# Altium schematic symbol library SCH - ARM CORTEX - STM STM32F302C(6-8)Tx.SchLib: 1 symbol
Pins are listed as number, name and electrical type; pins without a type are passive.

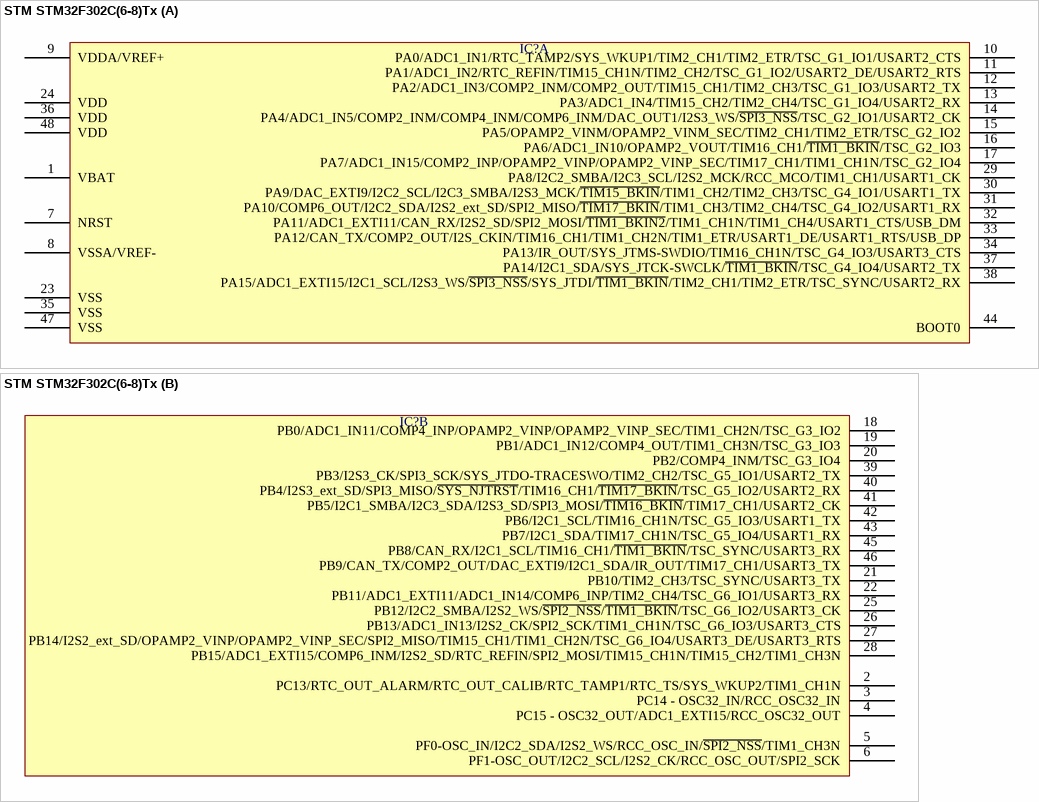
[diagram p0: symbol STM STM32F302C(6-8)Tx]

## STM STM32F302C(6-8)Tx
designator IC?  (value not drawn)
part A pins: 1 VBAT, 7 NRST, 8 VSSA/VREF-, 9 VDDA/VREF+, 10 PA0/ADC1_IN1/RTC_TAMP2/SYS_WKUP1/TIM2_CH1/TIM2_ETR/TSC_G1_IO1/USART2_CTS, 11 PA1/ADC1_IN2/RTC_REFIN/TIM15_CH1N/TIM2_CH2/TSC_G1_IO2/USART2_DE/USART2_RTS, 12 PA2/ADC1_IN3/COMP2_INM/COMP2_OUT/TIM15_CH1/TIM2_CH3/TSC_G1_IO3/USART2_TX, 13 PA3/ADC1_IN4/TIM15_CH2/TIM2_CH4/TSC_G1_IO4/USART2_RX, 14 PA4/ADC1_IN5/COMP2_INM/COMP4_INM/COMP6_INM/DAC_OUT1/I2S3_WS/~{SPI3_NSS}/TSC_G2_IO1/USART2_CK, 15 PA5/OPAMP2_VINM/OPAMP2_VINM_SEC/TIM2_CH1/TIM2_ETR/TSC_G2_IO2, 16 PA6/ADC1_IN10/OPAMP2_VOUT/TIM16_CH1/~{TIM1_BKIN}/TSC_G2_IO3, 17 PA7/ADC1_IN15/COMP2_INP/OPAMP2_VINP/OPAMP2_VINP_SEC/TIM17_CH1/TIM1_CH1N/TSC_G2_IO4, 23 VSS, 24 VDD, 29 PA8/I2C2_SMBA/I2C3_SCL/I2S2_MCK/RCC_MCO/TIM1_CH1/USART1_CK, 30 PA9/DAC_EXTI9/I2C2_SCL/I2C3_SMBA/I2S3_MCK/~{TIM15_BKIN}/TIM1_CH2/TIM2_CH3/TSC_G4_IO1/USART1_TX, 31 PA10/COMP6_OUT/I2C2_SDA/I2S2_ext_SD/SPI2_MISO/~{TIM17_BKIN}/TIM1_CH3/TIM2_CH4/TSC_G4_IO2/USART1_RX, 32 PA11/ADC1_EXTI11/CAN_RX/I2S2_SD/SPI2_MOSI/~{TIM1_BKIN2}/TIM1_CH1N/TIM1_CH4/USART1_CTS/USB_DM, 33 PA12/CAN_TX/COMP2_OUT/I2S_CKIN/TIM16_CH1/TIM1_CH2N/TIM1_ETR/USART1_DE/USART1_RTS/USB_DP, 34 PA13/IR_OUT/SYS_JTMS-SWDIO/TIM16_CH1N/TSC_G4_IO3/USART3_CTS, 35 VSS, 36 VDD, 37 PA14/I2C1_SDA/SYS_JTCK-SWCLK/~{TIM1_BKIN}/TSC_G4_IO4/USART2_TX, 38 PA15/ADC1_EXTI15/I2C1_SCL/I2S3_WS/~{SPI3_NSS}/SYS_JTDI/~{TIM1_BKIN}/TIM2_CH1/TIM2_ETR/TSC_SYNC/USART2_RX, 44 BOOT0, 47 VSS, 48 VDD
part B pins: 2 PC13/RTC_OUT_ALARM/RTC_OUT_CALIB/RTC_TAMP1/RTC_TS/SYS_WKUP2/TIM1_CH1N, 3 PC14 - OSC32_IN/RCC_OSC32_IN, 4 PC15 - OSC32_OUT/ADC1_EXTI15/RCC_OSC32_OUT, 5 PF0-OSC_IN/I2C2_SDA/I2S2_WS/RCC_OSC_IN/~{SPI2_NSS}/TIM1_CH3N, 6 PF1-OSC_OUT/I2C2_SCL/I2S2_CK/RCC_OSC_OUT/SPI2_SCK, 18 PB0/ADC1_IN11/COMP4_INP/OPAMP2_VINP/OPAMP2_VINP_SEC/TIM1_CH2N/TSC_G3_IO2, 19 PB1/ADC1_IN12/COMP4_OUT/TIM1_CH3N/TSC_G3_IO3, 20 PB2/COMP4_INM/TSC_G3_IO4, 21 PB10/TIM2_CH3/TSC_SYNC/USART3_TX, 22 PB11/ADC1_EXTI11/ADC1_IN14/COMP6_INP/TIM2_CH4/TSC_G6_IO1/USART3_RX, 25 PB12/I2C2_SMBA/I2S2_WS/~{SPI2_NSS}/~{TIM1_BKIN}/TSC_G6_IO2/USART3_CK, 26 PB13/ADC1_IN13/I2S2_CK/SPI2_SCK/TIM1_CH1N/TSC_G6_IO3/USART3_CTS, 27 PB14/I2S2_ext_SD/OPAMP2_VINP/OPAMP2_VINP_SEC/SPI2_MISO/TIM15_CH1/TIM1_CH2N/TSC_G6_IO4/USART3_DE/USART3_RTS, 28 PB15/ADC1_EXTI15/COMP6_INM/I2S2_SD/RTC_REFIN/SPI2_MOSI/TIM15_CH1N/TIM15_CH2/TIM1_CH3N, 39 PB3/I2S3_CK/SPI3_SCK/SYS_JTDO-TRACESWO/TIM2_CH2/TSC_G5_IO1/USART2_TX, 40 PB4/I2S3_ext_SD/SPI3_MISO/~{SYS_NJTRST}/TIM16_CH1/~{TIM17_BKIN}/TSC_G5_IO2/USART2_RX, 41 PB5/I2C1_SMBA/I2C3_SDA/I2S3_SD/SPI3_MOSI/~{TIM16_BKIN}/TIM17_CH1/USART2_CK, 42 PB6/I2C1_SCL/TIM16_CH1N/TSC_G5_IO3/USART1_TX, 43 PB7/I2C1_SDA/TIM17_CH1N/TSC_G5_IO4/USART1_RX, 45 PB8/CAN_RX/I2C1_SCL/TIM16_CH1/~{TIM1_BKIN}/TSC_SYNC/USART3_RX, 46 PB9/CAN_TX/COMP2_OUT/DAC_EXTI9/I2C1_SDA/IR_OUT/TIM17_CH1/USART3_TX